# EAGLE library part AMC1200SDUBR (library AMC1200SDUBR)
Isolation Amplifiers 4kV peak Iso Amp Source: Datasheet <https://www.ti.com/lit/gpn/AMC1200>
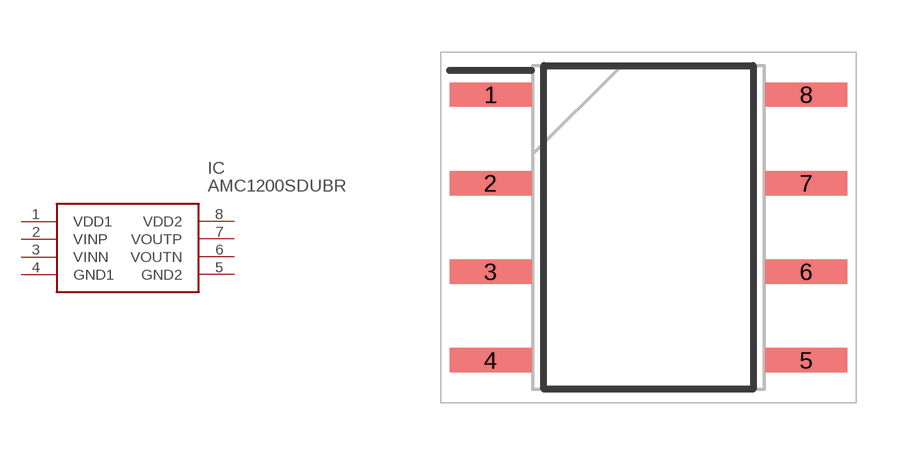
[diagram p0: symbol with the pads of SOP254P1040X485-8N; footprint SOP254P1040X485-8N]

Designator prefix IC

## AMC1200SDUBR (Arrow_Part_Number: AMC1200SDUBR; Arrow_Price-Stock: https://www.arrow.com/en/products/amc1200sdubr/texas-instruments.html?utm_currency=USD&region=nac; Description: Isolation Amplifiers 4kV peak Iso Amp; Height: 4.85mm; Manufacturer_Name: Texas Instruments; Manufacturer_Part_Number: AMC1200SDUBR; Mouser_Part_Number: 595-AMC1200SDUBR; Mouser_Price-Stock: https://www.mouser.co.uk/ProductDetail/Texas-Instruments/AMC1200SDUBR?qs=Nxfnlnd%252BiAcMKGpoVxsKlg%3D%3D)  [SOP254P1040X485-8N]
1  VDD1
2  VINP
3  VINN
4  GND1
5  GND2
6  VOUTN
7  VOUTP
8  VDD2

## Footprint SOP254P1040X485-8N (pad centres in mm)
DUB0008A
smd 2.35 x 0.7: 1 -4.525,3.81; 2 -4.525,1.27; 3 -4.525,-1.27; 4 -4.525,-3.81; 5 4.525,-3.81; 6 4.525,-1.27; 7 4.525,1.27; 8 4.525,3.81